# EAGLE library part MODULE_CONNECTOR (library UADIVOLECO_module_connector)
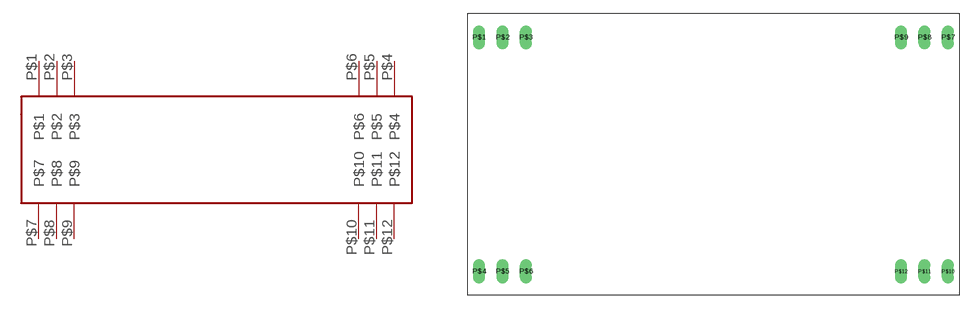
[diagram p0: symbol with the pads of MODULE_CONNECTOR; footprint MODULE_CONNECTOR]

Designator prefix -

## MODULE_CONNECTOR  [MODULE_CONNECTOR]
P$1  P$1
P$2  P$2
P$3  P$3
P$4  P$4
P$5  P$5
P$6  P$6
P$7  P$7
P$8  P$8
P$9  P$9
P$10  P$10
P$11  P$11
P$12  P$12

## Footprint MODULE_CONNECTOR (pad centres in mm)
drill 0.8 long: P$1 -25.4,12.7; P$2 -22.86,12.7; P$3 -20.32,12.7; P$4 -25.4,-12.7; P$5 -22.86,-12.7; P$6 -20.32,-12.7; P$7 25.4,12.7; P$8 22.86,12.7; P$9 20.32,12.7; P$10 25.4,-12.7; P$11 22.86,-12.7; P$12 20.32,-12.7